# EAGLE library part LM73 (library flashlight)
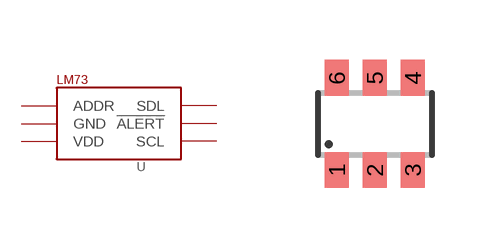
[diagram p5: symbol with the pads of SOT23-6; footprint SOT23-6]

Designator prefix U

## LM73  [SOT23-6]
1  ADDR
2  GND
3  VDD
4  SCL
5  !ALERT!
6  SDL

## Footprint SOT23-6 (pad centres in mm)
Small Outline Transistor 6 lead
smd 0.6 x 0.9: 1 -0.95,-1.15; 2 0,-1.15; 3 0.95,-1.15; 4 0.95,1.15; 5 0,1.15; 6 -0.95,1.15